# Altium footprint library 3866A (Spade connector).PcbLib: 1 footprints
Each footprint in its own frame and in the unit in brackets; x right, y up, seen from the top. Pads: shape width x height; smd on the part's side, far side on the other; paste and mask are expansions set on the pad; w line width, h text height; cw(c..) or ccw(c..) is an arc to the next point about the centre after c.
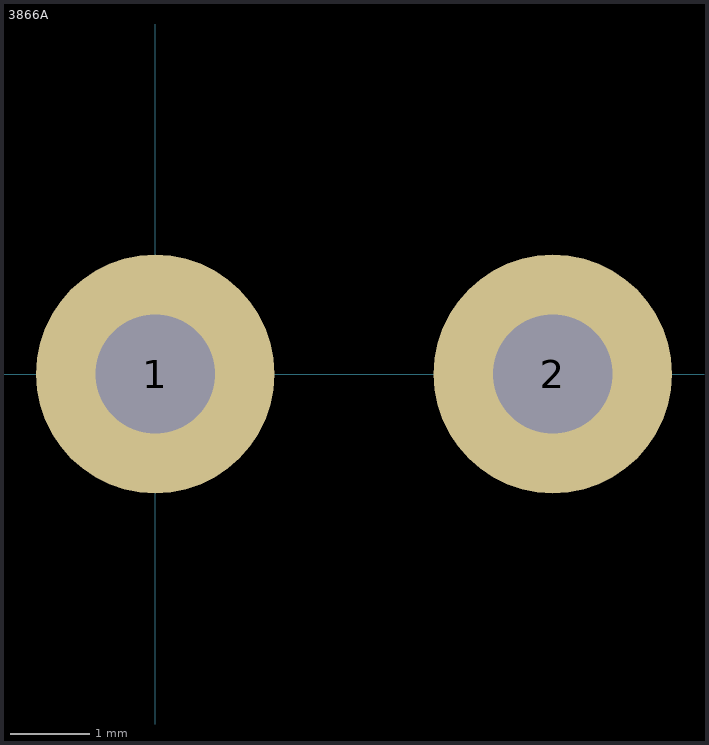
[diagram p0: the footprint, top view; thin cyan lines are the x and y axes]

## 3866A [mm]
pads (2):
  round 3 hole 1.5: 1(0,0) 2(5,0)
3D body: height 10.4, standoff 0, extent -0.762,-0.508 5.969,0.508